# Altium schematic symbol library LM3485MMX_NOPB.SchLib: 1 symbol
Pins are listed as number, name and electrical type; pins without a type are passive.

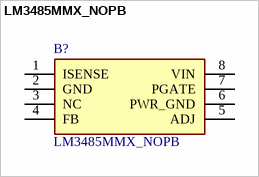
[diagram p0: symbol LM3485MMX_NOPB]

## LM3485MMX_NOPB
designator B?
4.5-35V, Hysteretic Non-Synchronous PFET Buck Controller; Manufacturer_Name: Texas Instruments; Manufacturer_Part_Number: LM3485MMX/NOPB; Geometry.Height: 1.1mm; Mouser Part Number: 926-LM3485MMX/NOPB; Mouser Price/Stock: https://www.mouser.co.uk/ProductDetail/Texas-Instruments/LM3485MMX-NOPB?qs=X1J7HmVL2ZGdhzJdAW27lw%3D%3D; Arrow Part Number: LM3485MMX/NOPB; Arrow Price/Stock: https://www.arrow.com/en/products/lm3485mmxnopb/texas-instruments?utm_currency=USD&region=nac; Datasheet Link: http://www.ti.com/lit/gpn/lm3485
footprint SOP65P490X110-8N
pins: 1 ISENSE, 2 GND, 3 NC, 4 FB, 5 ADJ, 6 PWR_GND, 7 PGATE, 8 VIN